# Altium footprint library SPT3G_LCBoard.PcbLib: 35 footprints (part 2 of 3)
Each footprint in its own frame and in the unit in brackets; x right, y up, seen from the top. Pads: shape width x height; smd on the part's side, far side on the other; paste and mask are expansions set on the pad; w line width, h text height; cw(c..) or ccw(c..) is an arc to the next point about the centre after c.
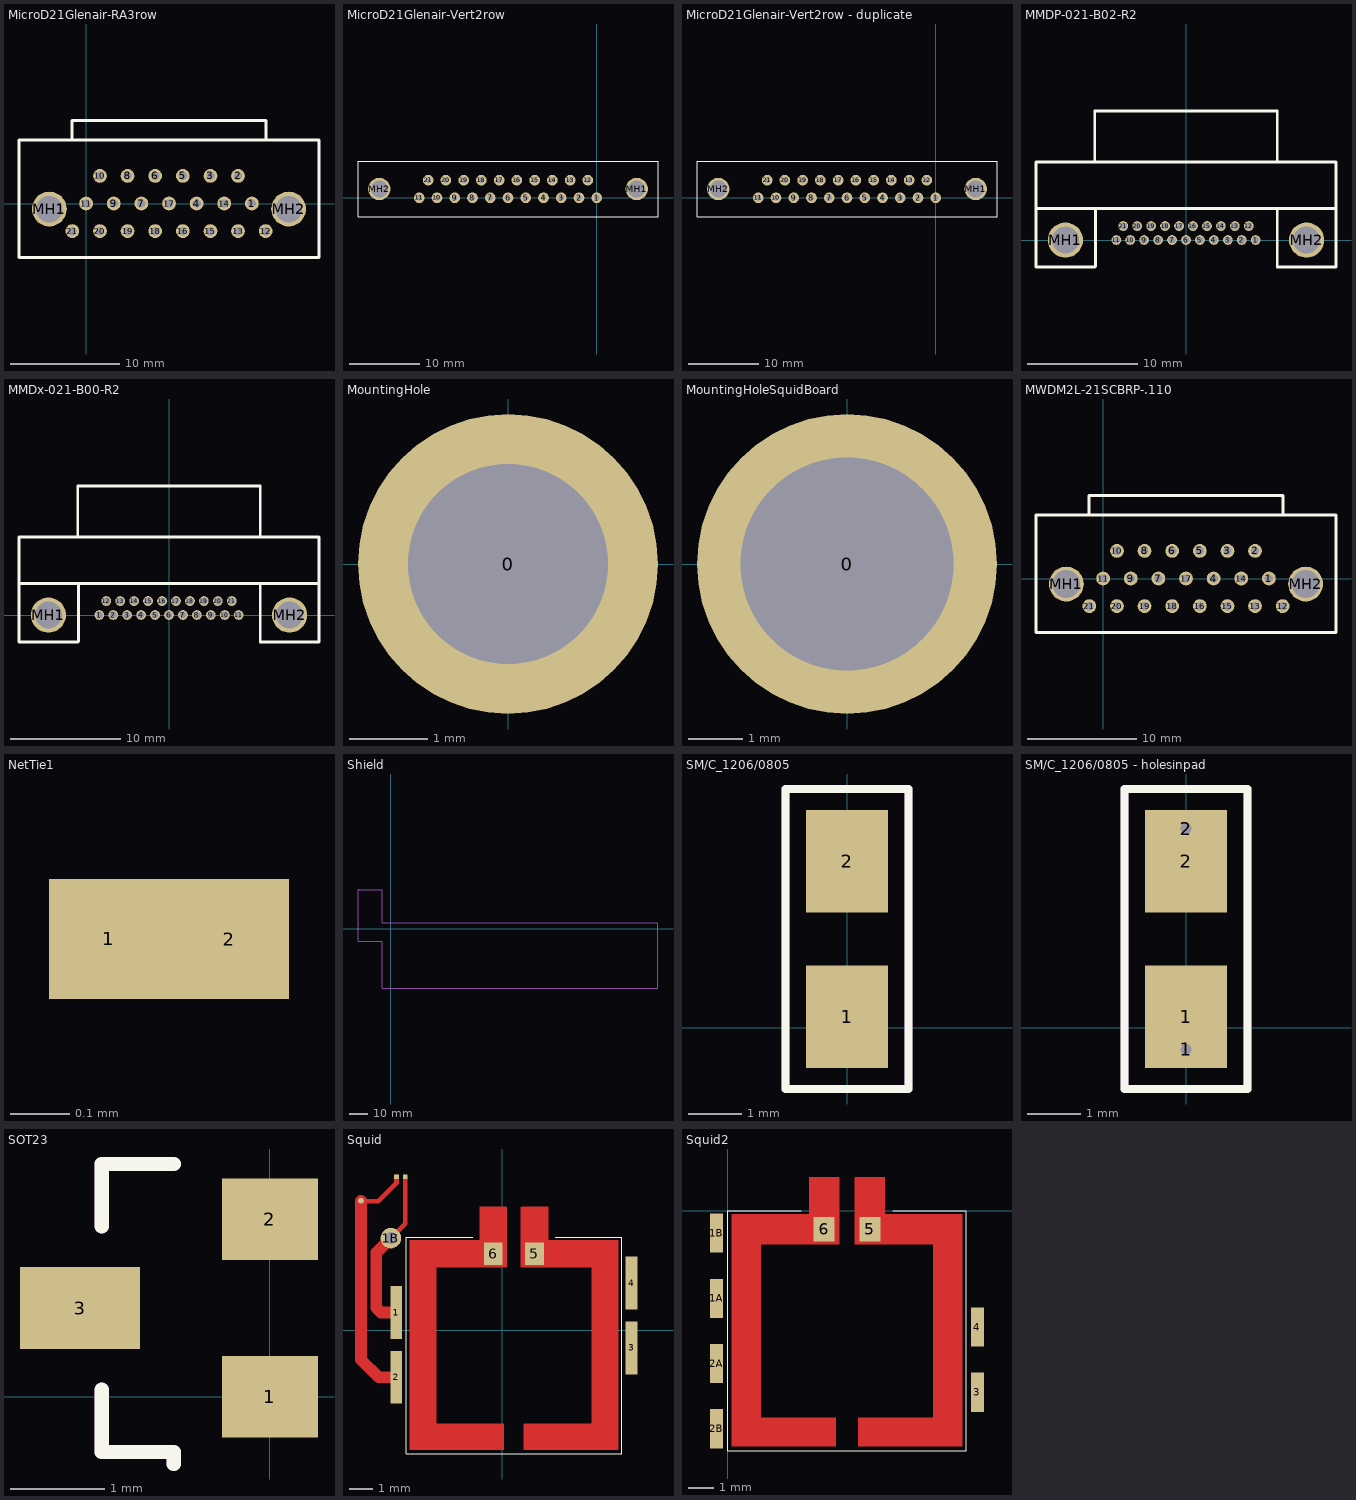
[diagram p1: the footprints below, top view; thin cyan lines are the x and y axes]

## MicroD21Glenair-RA3row [mil] "MWDM2L-21SCBRP-.110"
pads (23):
  round 50 hole 30: 1(600,0) 2(550,100) 3(450,100) 4(400,0) 5(350,100) 6(250,100) 7(200,0) 8(150,100) 9(100,0) 10(50,100) 11(0,0) 12(650,-100) 13(550,-100) 14(500,0) 15(450,-100) 16(350,-100) 17(300,0) 18(250,-100) 19(150,-100) 20(50,-100) 21(-50,-100)
  round 125.98 hole 96.06: MH1(-133,-20) MH2(733,-20)
Top Overlay:
  lines w10: -51,231 -51,300 651,300 651,231 ; -243,-195 -243,230 843,230 843,-195 -243,-195

## MicroD21Glenair-Vert2row [mil]
pads (23):
  round 60 hole 30: 1(0,0) 2(-100,0) 3(-200,0) 4(-300,0) 5(-400,0) 6(-500,0) 7(-600,0) 8(-700,0) 9(-800,0) 10(-900,0) 11(-1000,0) 12(-50,100) 13(-150,100) 14(-250,100) 15(-350,100) 16(-450,100) 17(-550,100) 18(-650,100) 19(-750,100) 20(-850,100) 21(-950,100)
  round 125.98 hole 96.06: MH1(225,50) MH2(-1225,50)
Top Overlay:
  lines w3.94: -1345,-105 -1345,205 345,205 345,-105 -1345,-105

## MicroD21Glenair-Vert2row - duplicate [mil]
pads (23):
  round 60 hole 30: 1(0,0) 2(-100,0) 3(-200,0) 4(-300,0) 5(-400,0) 6(-500,0) 7(-600,0) 8(-700,0) 9(-800,0) 10(-900,0) 11(-1000,0) 12(-50,100) 13(-150,100) 14(-250,100) 15(-350,100) 16(-450,100) 17(-550,100) 18(-650,100) 19(-750,100) 20(-850,100) 21(-950,100)
  round 125.98 hole 96.06: MH1(225,50) MH2(-1225,50)
Top Overlay:
  lines w3.94: -1345,-105 345,-105 345,205 -1345,205 -1345,-105

## MMDP-021-B02-R2 [mil] "Omnetrics21pinR2Tail"
pads (23):
  round 35 hole 25: 1(250,0) 2(200,0) 3(150,0) 4(100,0) 5(50,0) 6(0,0) 7(-50,0) 8(-100,0) 9(-150,0) 10(-200,0) 11(-250,0) 12(225,50) 13(175,50) 14(125,50) 15(75,50) 16(25,50) 17(-25,50) 18(-75,50) 19(-125,50) 20(-175,50) 21(-225,50)
  round 125.98 hole 96.06: MH1(-432.5,0) MH2(432.5,0)
Top Overlay:
  lines w1: -327.5,460.5 -325,463
  lines w10: -538,113 -325,113 ; -327.5,-97 -537.5,-97 -537.5,280 ; -327.5,460.5 -327.5,280 -537.5,280 ; -327.5,463 327.5,463 ; -325,-94.5 -325,113 ; 327.5,280 327.5,460.5 ; 538,113 327.5,113 ; -537.5,280 537.5,280 537.5,-97 327.5,-97 327.5,113 ; -325,113 327.5,113

## MMDx-021-B00-R2 [mil] "Omnetrics21pinR2Tail"
pads (23):
  round 35 hole 25: 1(-250,0) 2(-200,0) 3(-150,0) 4(-100,0) 5(-50,0) 6(0,0) 7(50,0) 8(100,0) 9(150,0) 10(200,0) 11(250,0) 12(-225,50) 13(-175,50) 14(-125,50) 15(-75,50) 16(-25,50) 17(25,50) 18(75,50) 19(125,50) 20(175,50) 21(225,50)
  round 125.98 hole 96.06: MH1(-432.5,0) MH2(432.5,0)
Top Overlay:
  lines w1: -327.5,460.5 -325,463
  lines w10: -538,113 -325,113 ; -327.5,-97 -537.5,-97 -537.5,280 ; -327.5,460.5 -327.5,280 -537.5,280 ; -327.5,463 327.5,463 ; -325,-94.5 -325,113 ; 327.5,280 327.5,460.5 ; 538,113 327.5,113 ; -537.5,280 537.5,280 537.5,-97 327.5,-97 327.5,113 ; -325,113 327.5,113

## MountingHole [mil] "Mounting Hole"
pads (1):
  round 150 hole 100: 0(0,0)

## MountingHoleSquidBoard [mil]
pads (1):
  round 217 hole 154: 0(0,0)

## MWDM2L-21SCBRP-.110 [mil] "MWDM2L-21SCBRP-.110"
pads (23):
  round 50 hole 30: 1(600,0) 2(550,100) 3(450,100) 4(400,0) 5(350,100) 6(250,100) 7(200,0) 8(150,100) 9(100,0) 10(50,100) 11(0,0) 12(650,-100) 13(550,-100) 14(500,0) 15(450,-100) 16(350,-100) 17(300,0) 18(250,-100) 19(150,-100) 20(50,-100) 21(-50,-100)
  round 125.98 hole 100: MH1(-133,-20) MH2(733,-20)
Top Overlay:
  lines w10: -51,231 -51,300 651,300 651,231 ; -243,-195 -243,230 843,230 843,-195 -243,-195
3D body "gmr7590-21s-1bpn.stp": height 309.92, standoff -123.62, extent -242.35,-175.76 842.77,422.27

## NetTie1 [mil]
pads (2):
  rect 8x8 smd paste-4 mask-4: 1(-49974.85,-49974.85) 2(-49966.84,-49974.87)
Top Layer:
  lines w8: -49974.85,-49974.85 -49966.86,-49974.85

## PCBComponent_1 [mil]

## Shield [mil]
pads (11):
  round 20 on Mech1: 4(-680,-270) 4(-680,120) 4(-680,820) 4(-180,-1260) 4(-180,-270) 4(-180,120) 4(0,0) 4(0,120) 4(5620,-1260) 4(5620,0) 4(5620,120)
Mechanical 1:
  lines w20: -680,-270 -680,120 -680,820 -180,820 -180,120 5620,120 5620,-1260 -180,-1260 -180,-270 -680,-270

## SM/C_1206/0805 [mil]
pads (2):
  rect 60x75 smd: 1(0,8) 2(0,122)
Top Overlay:
  lines w6: -45,-45 -45,175 45,175 45,-45 -45,-45
Mechanical 1:
  lines w6: -45,-45 -45,175 45,175 45,-45 -45,-45

## SM/C_1206/0805 - holesinpad [mil]
pads (4):
  round 20 hole 8 paste-10 mask-10: 1(0,-16) 2(0,146)
  rect 60x75 smd: 1(0,8) 2(0,122)
Top Overlay:
  lines w6: -45,-45 45,-45 45,175 -45,175 -45,-45
Mechanical 1:
  lines w6: -45,-45 45,-45 45,175 -45,175 -45,-45

## SOT23 [mil]
pads (3):
  rect 40x34 smd: 1(0,0) 2(0,74)
  rect 50x34 smd: 3(-79,37)
Top Overlay:
  lines w6: -70,3 -70,-23 -40,-23 -40,-28 ; -70,71 -70,97 -40,97
Mechanical 1:
  lines w6: -70,3 -70,-23 -40,-23 -40,-28 ; -70,71 -70,97 -40,97

## Squid [mil]
pads (10):
  rect 20x90 smd: 1(-180,30) 2(-180.13,-80.01) 3(220,-30) 4(220,80)
  rect 8x8 smd paste-4 mask-4: 1A(-164.65,261) 2A(-179.65,261)
  round 35 hole 20: 1B(-189.15,156.5)
  round 10 smd paste-5 mask-5: 2B(-240,220)
  rect 32x38 smd paste-20 mask-20: 5(55,130) 6(-15,130)
Top Layer:
  region: 78,210 33,210 32,209 32,107 152,107 152,-159 37.41,-159 37,-160 37,-203 197,-203 197,153 78,153
  region: -38,210 7,210 8,209 8,107 -112,107 -112,-159 2.59,-159 3,-160 3,-203 -157,-203 -157,153 -38,153
  lines w8: -240,219.65 -240.38,219.28 -210.38,219.28 -179.65,250 -179.65,261 ; -189.15,156.5 -164.65,181 -164.65,250 -164.65,261
  lines w20: -240,219.65 -240,-49.82 -209.82,-80.01 -180.13,-80.01 ; -214,132 -214,38.25 -205.75,30 -180,30 ; -213.65,132 -189.15,156.5
Top Overlay:
  lines w1: -50,158 -160,158 -163,158 -163,155 -163,-210 203,-210 203,158 90,158

## Squid2 [mil]
pads (8):
  rect 20x60 smd paste-100: 1A(-17,-133.99) 1B(-17,-33.99) 2A(-17,-233.99) 2B(-17,-333.99) 3(383,-278) 4(383,-178)
  rect 32x38 smd paste-20 mask-20: 5(218,-28) 6(148,-28)
Top Layer:
  region: 241,52 196,52 195,51 195,-51 315,-51 315,-317 200.41,-317 200,-318 200,-361 360,-361 360,-5 241,-5
  region: 125,52 170,52 171,51 171,-51 51,-51 51,-317 165.59,-317 166,-318 166,-361 6,-361 6,-5 125,-5
Top Overlay:
  lines w1: 113,0 3,0 0,0 0,-3 0,-368 366,-368 366,0 253,0